# Altium footprint library RESAD1869W81L1270D457.PcbLib: 1 footprints
Each footprint in its own frame and in the unit in brackets; x right, y up, seen from the top. Pads: shape width x height; smd on the part's side, far side on the other; paste and mask are expansions set on the pad; w line width, h text height; cw(c..) or ccw(c..) is an arc to the next point about the centre after c.
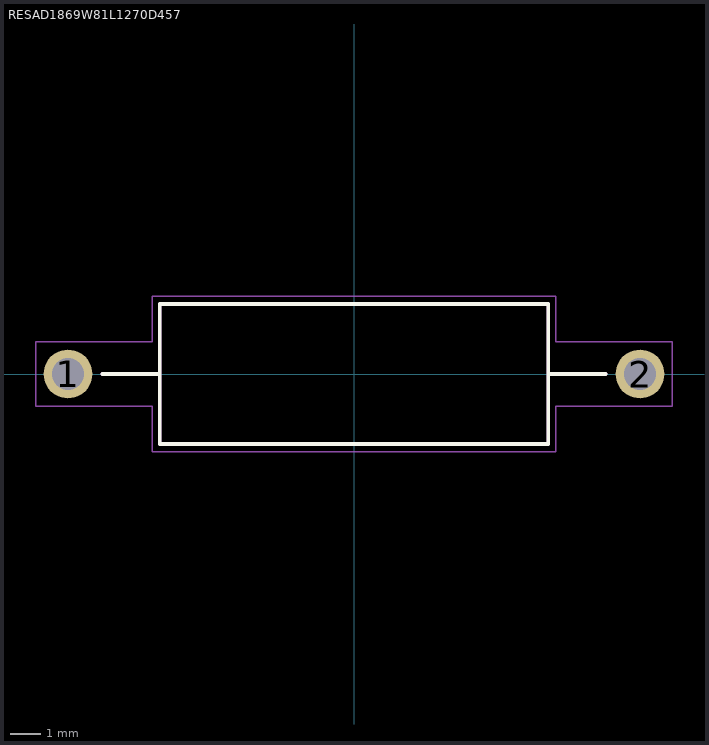
[diagram p0: the footprint, top view; thin cyan lines are the x and y axes]

## RESAD1869W81L1270D457 [mm]
height 5.383
pads (2):
  round 1.59 hole 1.06: 1(-9.349,0) 2(9.349,0)
Top Overlay:
  lines w0.127: -8.225,0 -6.35,0 ; 8.225,0 6.35,0 ; -6.35,0 -6.35,2.285 6.35,2.285 6.35,0 ; -6.35,0 -6.35,-2.285 6.35,-2.285 6.35,0
Mechanical 13:
  lines w0.127: -8.225,0 -6.35,0 ; 8.225,0 6.35,0 ; -6.35,0 -6.35,2.285 6.35,2.285 6.35,0 ; -6.35,0 -6.35,-2.285 6.35,-2.285 6.35,0
Mechanical 15:
  lines w0.05: -10.4,-1.05 -10.4,1.05 -6.6,1.05 -6.6,2.535 6.6,2.535 6.6,1.05 10.4,1.05 10.4,-1.05 6.6,-1.05 6.6,-2.535 -6.6,-2.535 -6.6,-1.05 -10.4,-1.05
3D body "ALSR0310K00FE12.STEP": height 5.38, standoff -33.5, extent -9.931,-2.438 9.931,2.946